# EAGLE library part LT1677 (library my-linear)
LT1677 low noise op amp Added by ll3kx
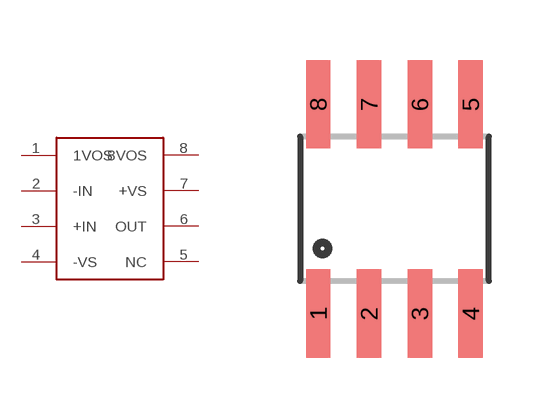
[diagram p0: symbol with the pads of 8-SOIC; footprint 8-SOIC]

Designator prefix -

## LT1677  [8-SOIC]
1  1VOS
2  -IN
3  +IN
4  -VS
5  NC
6  OUT
7  +VS
8  8VOS

## Footprint 8-SOIC (pad centres in mm)
smd 0.61 x 2.21: 1 -1.905,-2.616; 2 -0.635,-2.616; 3 0.635,-2.616; 4 1.905,-2.616; 5 1.905,2.616; 6 0.635,2.616; 7 -0.635,2.616; 8 -1.905,2.616